# Altium footprint library PCB - CONNECTOR - WURTH - WURTH SMP 60114202122305.PcbLib: 1 footprints
Each footprint in its own frame and in the unit in brackets; x right, y up, seen from the top. Pads: shape width x height; smd on the part's side, far side on the other; paste and mask are expansions set on the pad; w line width, h text height; cw(c..) or ccw(c..) is an arc to the next point about the centre after c.
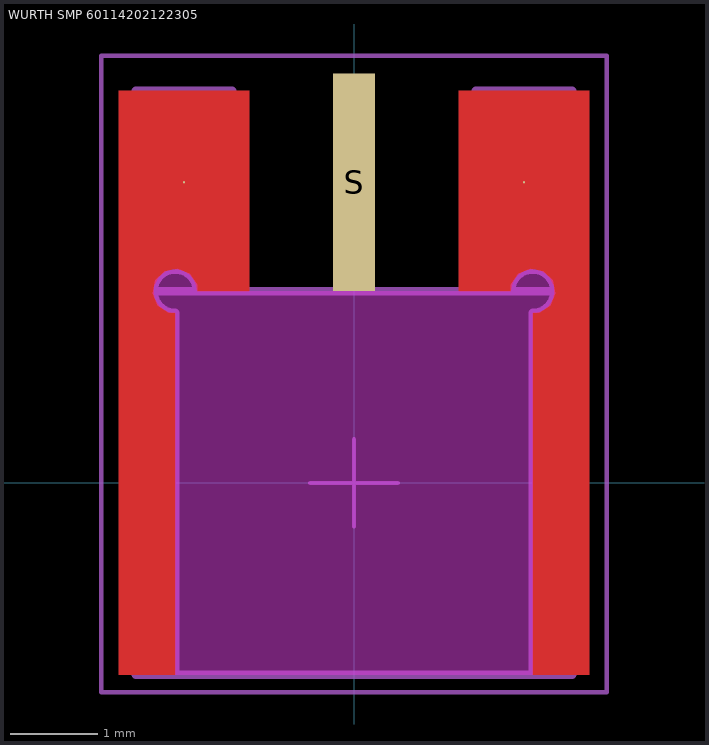
[diagram p0: the footprint, top view; thin cyan lines are the x and y axes]

## WURTH SMP 60114202122305 [mm] "SMP SMT END LAUNCH PLUG"
height 4
pads (3):
  round 0.025 smd: G(-1.95,3.45) G(1.95,3.45)
  rect 0.48x2.5 smd: S(0,3.45)
Top Layer:
  region: 2.7,-2.2 2.05,-2.2 2.05,1.95 2.079,1.952 2.137,1.965 2.189,1.992 2.234,2.03 2.268,2.078 2.291,2.132 2.3,2.19 2.295,2.249 2.277,2.305 2.246,2.355 2.205,2.396 2.155,2.427 2.099,2.445 2.04,2.45 1.982,2.441 1.928,2.418 1.88,2.384 1.842,2.339 1.815,2.287 1.802,2.229 1.8,2.2 1.2,2.2 1.2,4.5 2.7,4.5
  region: -2.7,-2.2 -2.05,-2.2 -2.05,1.95 -2.079,1.952 -2.137,1.965 -2.189,1.992 -2.234,2.03 -2.268,2.078 -2.291,2.132 -2.3,2.19 -2.295,2.249 -2.277,2.305 -2.246,2.355 -2.205,2.396 -2.155,2.427 -2.099,2.445 -2.04,2.45 -1.982,2.441 -1.928,2.418 -1.88,2.384 -1.842,2.339 -1.815,2.287 -1.802,2.229 -1.8,2.2 -1.2,2.2 -1.2,4.5 -2.7,4.5
Keep-Out Layer:
  board cut-out: -2.05,-2.2 2.05,-2.2 2.05,1.95 2.126,1.95 2.252,2.034 2.31,2.174 2.28,2.323 2.173,2.43 2.024,2.46 1.884,2.402 1.8,2.276 1.8,2.2 -1.8,2.2 -1.8,2.276 -1.884,2.402 -2.024,2.46 -2.173,2.43 -2.28,2.323 -2.31,2.174 -2.252,2.034 -2.126,1.95 -2.05,1.95
Bottom 3D Body:
  lines w0.1: -2.05,-2.2 -2.05,1.95 cw(c-2.05,2.2) -1.8,2.2 1.8,2.2 cw(c2.05,2.2) 2.05,1.95 2.05,-2.2 -2.05,-2.2
  text "Board Cutout Area" at -1.9,-0.1 h0.3
Top Component Center:
  lines w0.05: -0.5,0 0.5,0 ; 0,-0.5 0,0.5
Top Component Outline:
  lines w0.1: -2.5,2.2 2.5,2.2 ; -1.4,2.2 -1.4,4.5 -2.5,4.5 -2.5,-2.2 2.5,-2.2 2.5,4.5 1.4,4.5 1.4,2.2 ; -0.19,2.2 -0.19,4.5 0.19,4.5 0.19,2.2
Top Courtyard:
  lines w0.05: -2.9,-2.4 -2.9,4.9 2.9,4.9 2.9,-2.4 -2.9,-2.4
3D body "Wurth 60114202122305.step": height 2.2, standoff -1.8, extent -2.5,-2.2 2.5,4.5